# Altium schematic symbol library Crystal.SchLib: 2 symbols
Pins are listed as number, name and electrical type; pins without a type are passive.

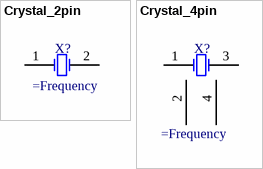
[diagram p0: symbols Crystal_2pin to Crystal_4pin]

## Crystal_2pin
designator X?  (value not drawn)
=Description; Value: =Frequency
pins: 1 X1, 2

## Crystal_4pin
designator X?  (value not drawn)
=Description; Value: =Frequency
pins: 1 X1, 2 GND, 3 X3, 4 GND